# EAGLE library part 74099-06 (library con-molex-c-grid)
C-Grid SL
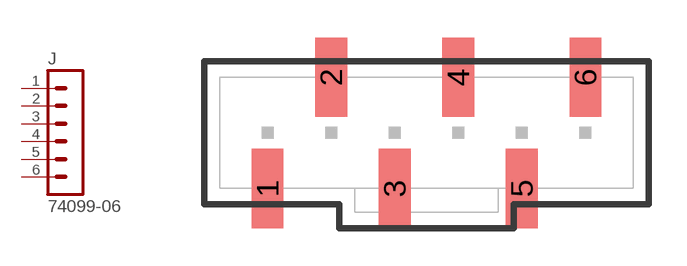
[diagram p40: symbol with the pads of 74099-06; footprint 74099-06]

Designator prefix J

## 74099-06  [74099-06]
1  1  pas
2  2  pas
3  3  pas
4  4  pas
5  5  pas
6  6  pas

## Footprint 74099-06 (pad centres in mm)
C-Grid SL vertical, SMD
smd 1.27 x 3.175: 1 -6.35,-2.223; 2 -3.81,2.223; 3 -1.27,-2.223; 4 1.27,2.223; 5 3.81,-2.223; 6 6.35,2.223